# EAGLE library part 5749069-1 (library con-amp-te)
TE CONNECTIVITY / AMP - BUCHSE, SCSI, VERTIKAL, 20 Source: Data sheet <http://www.tycoelectronics.com/commerce/DocumentDelivery/DDEController?Action=srchrtrv&DocNm=5749069&DocType=Customer+Drawing&DocLang=English>
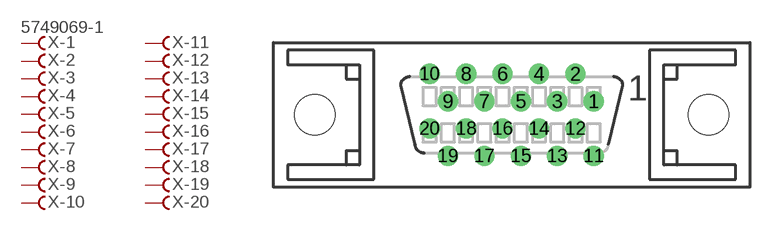
[diagram p6: symbol with the pads of 5749069-1; footprint 5749069-1]

Designator prefix X; gates -1=FV -2=F -3=F -4=F -5=F -6=F -7=F -8=F -9=F -10=F -11=F -12=F -13=F -14=F -15=F -16=F -17=F -18=F -19=F -20=F

## 5749069-1  [5749069-1]
1  -1:F  pas
2  -2:F  pas
3  -3:F  pas
4  -4:F  pas
5  -5:F  pas
6  -6:F  pas
7  -7:F  pas
8  -8:F  pas
9  -9:F  pas
10  -10:F  pas
11  -11:F  pas
12  -12:F  pas
13  -13:F  pas
14  -14:F  pas
15  -15:F  pas
16  -16:F  pas
17  -17:F  pas
18  -18:F  pas
19  -19:F  pas
20  -20:F  pas

## Footprint 5749069-1 (pad centres in mm)
TE CONNECTIVITY / AMP - BUCHSE, SCSI, VERTIKAL, 20 Source: Data sheet <http://www.tycoelectronics.com/commerce/DocumentDelivery/DDEController?Action=srchrtrv&DocNm=5749069&DocType=Customer+Drawing&DocLang=English>
drill 0.9 pad 1.27: 1 5.715,0.953; 2 4.445,2.863; 3 3.175,0.953; 4 1.905,2.863; 5 0.635,0.953; 6 -0.635,2.863; 7 -1.905,0.953; 8 -3.175,2.863; 9 -4.445,0.953; 10 -5.715,2.863; 11 5.715,-2.867; 12 4.445,-0.957; 13 3.175,-2.867; 14 1.905,-0.957; 15 0.635,-2.867; 16 -0.635,-0.957; 17 -1.905,-2.867; 18 -3.175,-0.957; 19 -4.445,-2.867; 20 -5.715,-0.957
hole 2.8 at -13.715,0
hole 2.8 at 13.715,0